# EAGLE library part LORLIN-3-4 (library switch-lorlin)
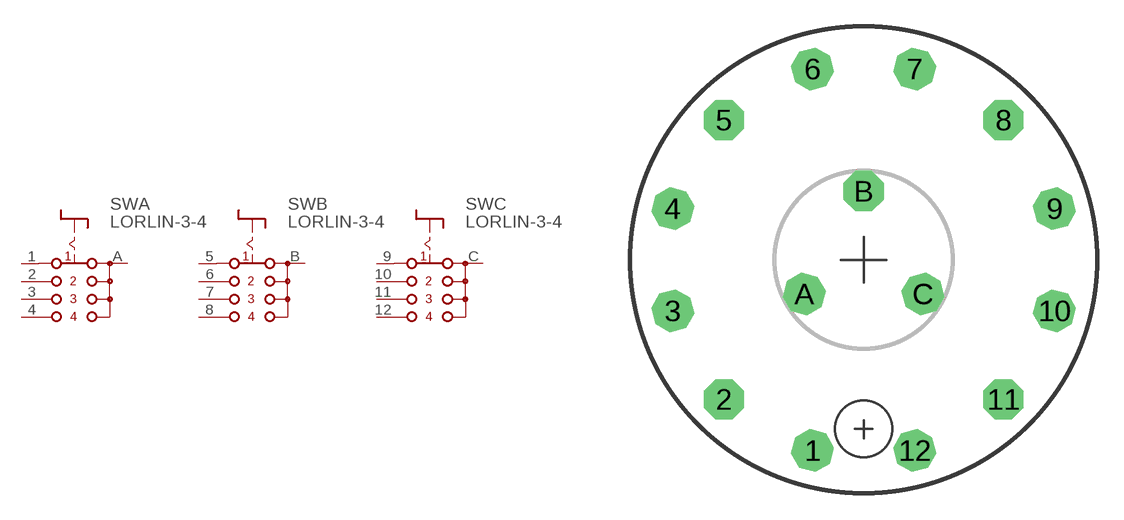
[diagram p2: symbol with the pads of LORLIN-3-4; footprint LORLIN-3-4]

Designator prefix SW; gates A=SW-1-4 B=SW-1-4 C=SW-1-4

## LORLIN-3-4  [LORLIN-3-4]
1  A:1  pas
2  A:2  pas
3  A:3  pas
4  A:4  pas
5  B:1  pas
6  B:2  pas
7  B:3  pas
8  B:4  pas
9  C:1  pas
10  C:2  pas
11  C:3  pas
12  C:4  pas
A  A:S  pas
B  B:S  pas
C  C:S  pas

## Footprint LORLIN-3-4 (pad centres in mm)
drill 1.5 octagon: 1 -2.873,-10.722; 2 -7.849,-7.849; 3 -10.722,-2.873; 4 -10.722,2.873; 5 -7.849,7.849; 6 -2.873,10.722; 7 2.873,10.722; 8 7.849,7.849; 9 10.722,2.873; 10 10.722,-2.873; 11 7.849,-7.849; 12 2.873,-10.722; A -3.334,-1.925; B 0,3.85; C 3.334,-1.925